# Altium footprint library Nokia1616_Display.PcbLib: 1 footprints
Each footprint in its own frame and in the unit in brackets; x right, y up, seen from the top. Pads: shape width x height; smd on the part's side, far side on the other; paste and mask are expansions set on the pad; w line width, h text height; cw(c..) or ccw(c..) is an arc to the next point about the centre after c.
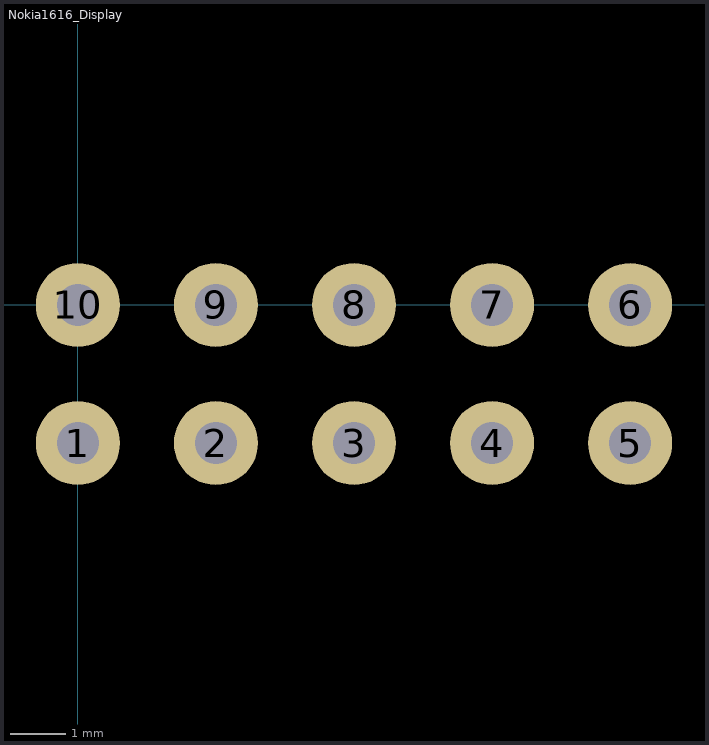
[diagram p0: the footprint, top view; thin cyan lines are the x and y axes]

## Nokia1616_Display [mil]
pads (10):
  round 60 hole 30: 1(0,-98.43) 2(98.43,-98.43) 3(196.85,-98.43) 4(295.28,-98.43) 5(393.7,-98.43) 6(393.7,0) 7(295.28,0) 8(196.85,0) 9(98.43,0) 10(0,0)